# Altium integrated library 0402WGF5102TCE.IntLib: 1 symbol
Pins are listed as number, name and electrical type; pins without a type are passive.

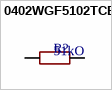
[diagram p0: symbol 0402WGF5102TCE]

## 0402WGF5102TCE
designator R?  value 51kO  (hidden comment: 0402WGF5102TCE)
Resistors. -55C~+155C 50V 51kohm 62.5mW Thick Film Resistor +/-1% +/-100ppm/C 0402 Chip Resistor - Surface Mount ROHS; Manufacturer: UNI-ROYAL(Uniroyal Elec); Component Type: Resistors; Design Item ID: 0402WGF5102TCE; JLCPCB Part #: C25794; Manufacturer Part Number: 0402WGF5102TCE
footprint 0402WGF5102TCE (R0402)
pins: 1, 2